# Altium footprint library WURTH WS-TASV 435441019830.PcbLib: 1 footprints
Each footprint in its own frame and in the unit in brackets; x right, y up, seen from the top. Pads: shape width x height; smd on the part's side, far side on the other; paste and mask are expansions set on the pad; w line width, h text height; cw(c..) or ccw(c..) is an arc to the next point about the centre after c.
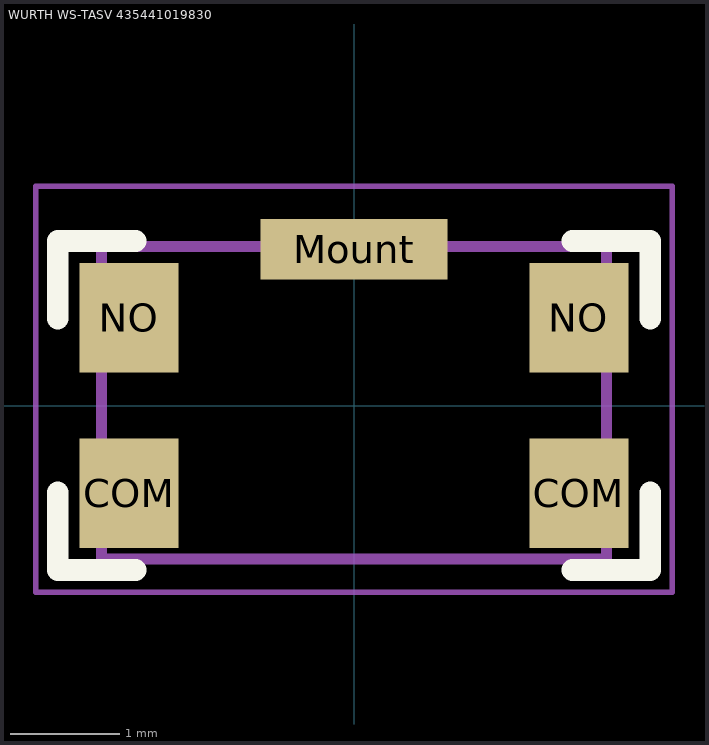
[diagram p0: the footprint, top view; thin cyan lines are the x and y axes]

## WURTH WS-TASV 435441019830 [mm] "SMT Washable Tact Switch 4.1 x 2.8 mm"
height 1.9
pads (5):
  rect 0.9x1 smd: COM(-2.05,-0.8) COM(2.05,-0.8) NO(-2.05,0.8) NO(2.05,0.8)
  rect 1.7x0.55 smd: Mount(0,1.425)
Top Overlay:
  lines w0.2: -2.7,-0.793 -2.7,-1.5 -1.993,-1.5 ; -2.7,0.793 -2.7,1.5 -1.993,1.5 ; 1.993,-1.5 2.7,-1.5 2.7,-0.793 ; 1.993,1.5 2.7,1.5 2.7,0.793
Top Assembly:
  lines w0.1: -2.3,-1.4 -2.3,1.45 2.3,1.45 2.3,-1.4 -2.3,-1.4
Top Courtyard:
  lines w0.05: -2.9,-1.7 2.9,-1.7 2.9,2 -2.9,2 -2.9,-1.7
Top Designator:
  text ".Designator" at -4.998,-0.333 h1
3D body "Download_435441019830_STP (rev1).stp": height 1.9, standoff -0.01, extent -2.3,-1.4 2.3,1.45